# Altium schematic symbol library CONBNC002.SchLib: 1 symbol
Pins are listed as number, name and electrical type; pins without a type are passive.

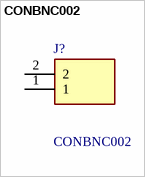
[diagram p0: symbol CONBNC002]

## CONBNC002
designator J?
RF Connectors / Coaxial Connectors BNC Connector Right Angle Jack, Female Socket 50 Ohm, Through Hole; Manufacturer_Name: TE Connectivity; Geometry.Height: 16mm; Mouser Part Number: N/A; Mouser Price/Stock: https://www.mouser.co.uk/ProductDetail/TE-Connectivity/CONBNC002?qs=3Rah4i%252BhyCHiIo0AD1KSrA%3D%3D; Manufacturer_Part_Number: CONBNC002; Datasheet Link: https://www.te.com/commerce/DocumentDelivery/DDEController?Action=showdoc&DocId=Customer+Drawing%7FC-CONBNC002%7FA%7Fpdf%7FEnglish%7FENG_CD_C-CONBNC002_A.pdf%7FCONBNC002
footprint CONBNC002
pins: 1, 2